# Altium footprint library MECH_SPACER.PcbLib: 26 footprints (part 2 of 2)
Each footprint in its own frame and in the unit in brackets; x right, y up, seen from the top. Pads: shape width x height; smd on the part's side, far side on the other; paste and mask are expansions set on the pad; w line width, h text height; cw(c..) or ccw(c..) is an arc to the next point about the centre after c.
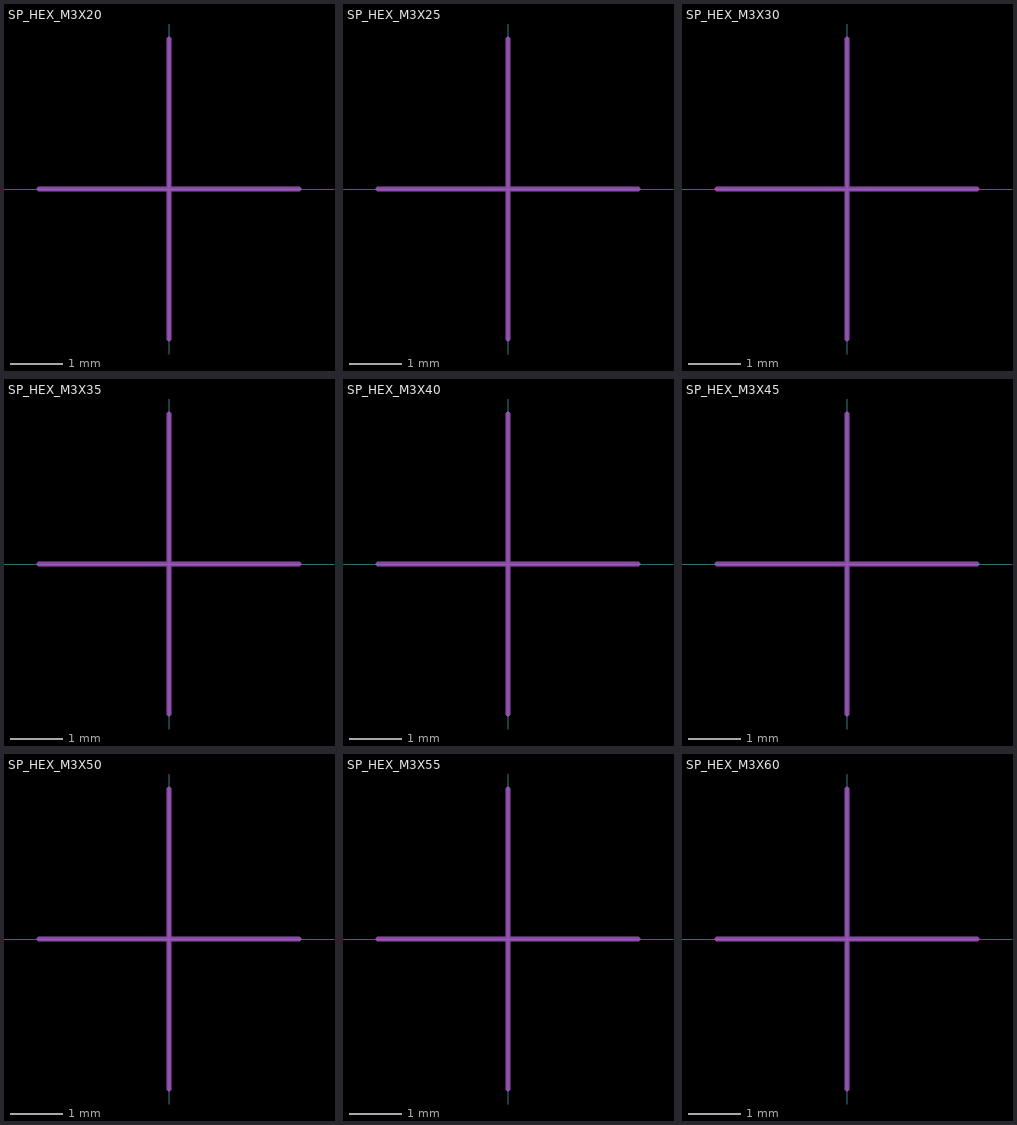
[diagram p1: the footprints below, top view; thin cyan lines are the x and y axes]

## SP_HEX_M3X20 [mm] "Spacer, Hex MF M3"
Mechanical 13:
  lines w0.1: -2.5,0 2.5,0 ; 0,-2.887 0,2.887
3D body "Hex Spacer MF M3 L20mm.stp": height 20, standoff -6, extent -2.5,-2.887 2.5,2.887

## SP_HEX_M3X25 [mm] "Spacer, Hex MF M3"
Mechanical 13:
  lines w0.1: -2.5,0 2.5,0 ; 0,-2.887 0,2.887
3D body "Hex Spacer MF M3 L25mm.stp": height 25, standoff -6, extent -2.5,-2.887 2.5,2.887

## SP_HEX_M3X30 [mm] "Spacer, Hex MF M3"
Mechanical 13:
  lines w0.1: -2.5,0 2.5,0 ; 0,-2.887 0,2.887
3D body "Hex Spacer MF M3 L30mm.stp": height 30, standoff -6, extent -2.5,-2.887 2.5,2.887

## SP_HEX_M3X35 [mm] "Spacer, Hex MF M3"
Mechanical 13:
  lines w0.1: -2.5,0 2.5,0 ; 0,-2.887 0,2.887
3D body "Hex Spacer MF M3 L35mm.stp": height 35, standoff -6, extent -2.5,-2.887 2.5,2.887

## SP_HEX_M3X40 [mm] "Spacer, Hex MF M3"
Mechanical 13:
  lines w0.1: -2.5,0 2.5,0 ; 0,-2.887 0,2.887
3D body "Hex Spacer MF M3 L40mm.stp": height 40, standoff -6, extent -2.5,-2.887 2.5,2.887

## SP_HEX_M3X45 [mm] "Spacer, Hex MF M3"
Mechanical 13:
  lines w0.1: -2.5,0 2.5,0 ; 0,-2.887 0,2.887
3D body "Hex Spacer MF M3 L45mm.stp": height 45, standoff -6, extent -2.5,-2.887 2.5,2.887

## SP_HEX_M3X50 [mm] "Spacer, Hex MF M3"
Mechanical 13:
  lines w0.1: -2.5,0 2.5,0 ; 0,-2.887 0,2.887
3D body "Hex Spacer MF M3 L50mm.stp": height 50, standoff -6, extent -2.5,-2.887 2.5,2.887

## SP_HEX_M3X55 [mm] "Spacer, Hex MF M3"
Mechanical 13:
  lines w0.1: -2.5,0 2.5,0 ; 0,-2.887 0,2.887
3D body "Hex Spacer MF M3 L55mm.stp": height 55, standoff -6, extent -2.5,-2.887 2.5,2.887

## SP_HEX_M3X60 [mm] "Spacer, Hex MF M3"
Mechanical 13:
  lines w0.1: -2.5,0 2.5,0 ; 0,-2.887 0,2.887
3D body "Hex Spacer MF M3 L60mm.stp": height 60, standoff -6, extent -2.5,-2.887 2.5,2.887

## STDOFF_FM2L10 [mm] "Stand-off, Female-Male"
3D body "971100244.stp": height 10, standoff -5, extent -2.309,-2 2.309,2